# EAGLE library part MAX7218A (library max7218)
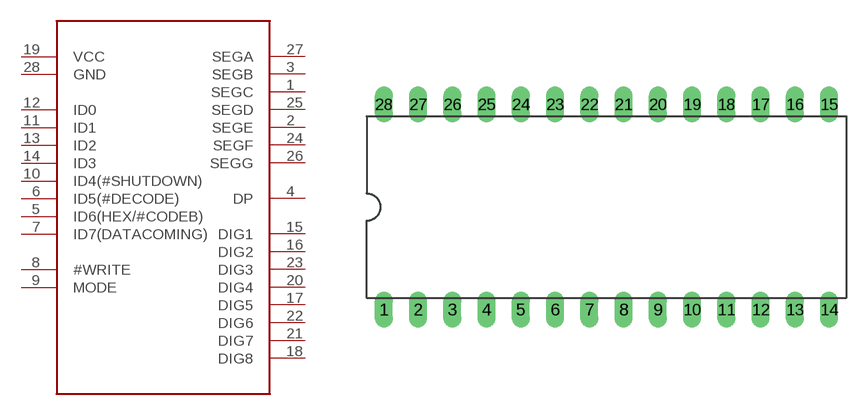
[diagram p0: symbol with the pads of DIL28; footprint DIL28]

Designator prefix -

## MAX7218A  [DIL28]
1  SEGC
2  SEGE
3  SEGB
4  DP
5  ID6(HEX/#CODEB)
6  ID5(#DECODE)
7  ID7(DATACOMING)
8  #WRITE
9  MODE
10  ID4(#SHUTDOWN)
11  ID1
12  ID0
13  ID2
14  ID3
15  DIG1
16  DIG2
17  DIG5
18  DIG8
19  VCC
20  DIG4
21  DIG7
22  DIG6
23  DIG3
24  SEGF
25  SEGD
26  SEGG
27  SEGA
28  GND

## Footprint DIL28 (pad centres in mm)
Dual In Line Package
drill 0.813 long: 1 -16.51,-7.62; 2 -13.97,-7.62; 3 -11.43,-7.62; 4 -8.89,-7.62; 5 -6.35,-7.62; 6 -3.81,-7.62; 7 -1.27,-7.62; 8 1.27,-7.62; 9 3.81,-7.62; 10 6.35,-7.62; 11 8.89,-7.62; 12 11.43,-7.62; 13 13.97,-7.62; 14 16.51,-7.62; 15 16.51,7.62; 16 13.97,7.62; 17 11.43,7.62; 18 8.89,7.62; 19 6.35,7.62; 20 3.81,7.62; 21 1.27,7.62; 22 -1.27,7.62; 23 -3.81,7.62; 24 -6.35,7.62; 25 -8.89,7.62; 26 -11.43,7.62; 27 -13.97,7.62; 28 -16.51,7.62